# EAGLE library part DS1077 (library Crystel)
Maxim DS1077 - I2C Real-time clock (RTC) The DS1077 is a dual-output, programmable, fixed-frequency oscillator requiring no external components for operation. The DS1077 can be used as a processor-controlled frequency synthesizer or as a standalone oscillator. The DS1077 features a 2-wire serial interface that allows in-circuit on-the-fly programming of the programmable prescalers (P0 & P1) and divider (N) with the desired values being stored in NV (EEPROM) memory. SparkFun Products: Real Time Clock Module <https://www.sparkfun.com/products/retired/99> (BOB-00099) Datasheet <http://datasheets.maximintegrated.com/en/ds/DS1077.pdf>
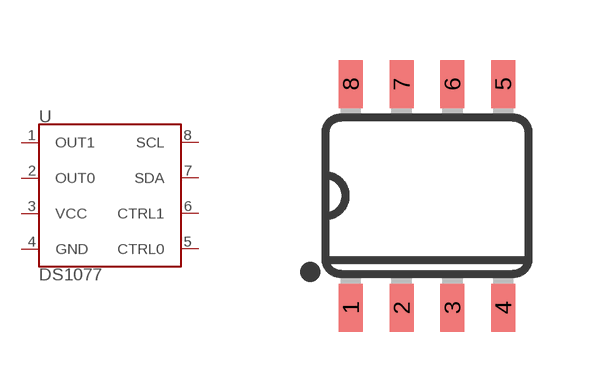
[diagram p0: symbol with the pads of SO08-0.15; footprint SO08-0.15]

Designator prefix U

## DS1077U (PROD_ID: IC-09075)  [SO08-0.15]
1  OUT1
2  OUT0
3  VCC
4  GND
5  CTRL0
6  CTRL1
7  SDA
8  SCL

## Footprint SO08-0.15 (pad centres in mm)
8-Pin SOIC 150mil 0.154" (3.9mm) width. Fits JEDEC packages (narrow SOIC-8). Used by DS1077 and DS1307 programmable oscillators
smd 0.6 x 1.2: 1 -1.905,-2.8; 2 -0.635,-2.8; 3 0.635,-2.8; 4 1.905,-2.8; 5 1.905,2.8; 6 0.635,2.8; 7 -0.635,2.8; 8 -1.905,2.8